# Altium footprint library Ant_V1_PCB.PcbLib: 18 footprints (part 1 of 2)
Each footprint in its own frame and in the unit in brackets; x right, y up, seen from the top. Pads: shape width x height; smd on the part's side, far side on the other; paste and mask are expansions set on the pad; w line width, h text height; cw(c..) or ccw(c..) is an arc to the next point about the centre after c.
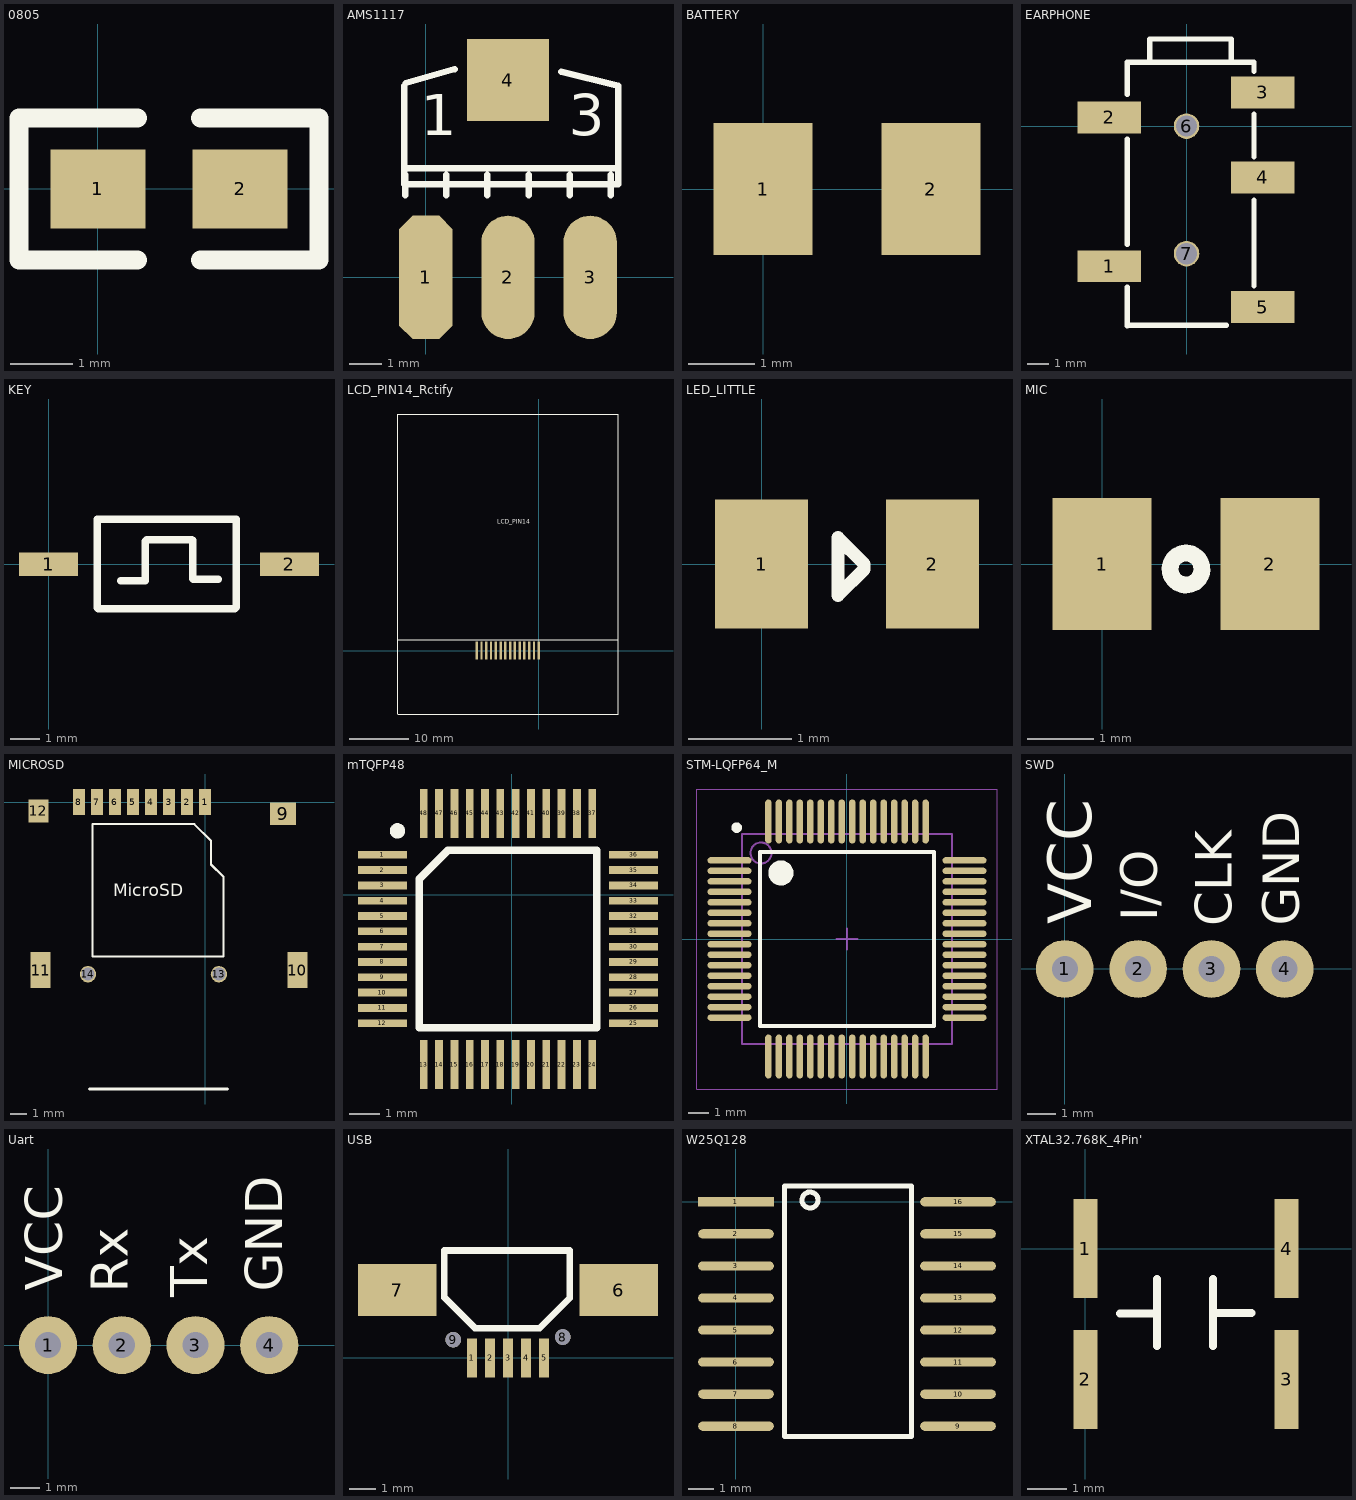
[diagram p0: the footprints below, top view; thin cyan lines are the x and y axes]

## 0805 [mil]
height 100
pads (2):
  rect 60x50 smd: 1(0,-0.06) 2(90,-0.06)
Top Overlay:
  lines w12: 25,-45.06 -50,-45.06 -50,44.94 25,44.94 ; 65,-45.06 140,-45.06 140,44.94 65,44.94

## AMS1117 [mil]
height 100
pads (4):
  oct 65x150 smd: 1(0.03,-0.06)
  oval 65x150 smd: 2(100.03,-0.06) 3(200.03,-0.06)
  rect 100x100 smd: 4(100.03,239.94)
Top Overlay:
  lines w7.87: -25.97,232.94 -25.97,132.94 ; -24.97,99.94 -24.97,124.94 ; -24.3,236.27 35.3,253.3 ; 25.03,99.94 25.03,124.94 ; 75.03,99.94 75.03,124.94 ; 125.03,99.94 125.03,124.94 ; 164.89,250.22 234.03,232.94 234.03,112.94 ; 175.03,99.94 175.03,124.94 ; 225.03,99.94 225.03,124.94 ; -25.97,132.94 -25.97,112.94 234.03,112.94 ; -25.97,132.94 234.03,132.94 234.03,112.94
  text "1" at -5.97,172.94 h50
  text "3" at 174.03,172.94 h50

## BATTERY [mm]
height 2.54
pads (2):
  rect 1.5x2 smd: 1(0,0) 2(2.54,0)

## EARPHONE [mm]
height 2.54
pads (7):
  rect 3x1.5 smd: 1(-3.632,-6.591) 2(-3.632,0.409) 3(3.581,1.584) 4(3.581,-2.416) 5(3.581,-8.516)
  round 1.2 hole 1 unplated: 6(0,0) 7(0,-6)
Top Overlay:
  lines w0.254: -2.794,-9.389 -2.769,-9.364 1.88,-9.364 ; -2.794,-9.338 -2.794,-7.586 ; -2.794,-5.554 -2.794,-0.626 ; -2.794,1.508 -2.794,3.006 0,3.006 3.175,3.006 3.175,2.574 ; -1.727,3.006 -1.727,4.098 2.108,4.098 2.108,3.006 ; 3.175,-7.509 3.175,-3.496 ; 3.175,-1.439 3.175,0.568

## KEY [mm]
height 2.54
pads (2):
  rect 2x0.8 smd: 1(0,0) 2(8.15,0)
Top Overlay:
  lines w0.254: 1.651,1.499 1.651,-1.473 1.676,-1.499 6.299,-1.499 6.35,-1.448 6.35,1.524 ; 1.651,1.524 6.35,1.524 ; 2.438,-0.559 3.277,-0.559 3.277,0.787 3.327,0.838 4.851,0.838 4.877,0.813 4.877,-0.483 4.902,-0.508 5.74,-0.508 ; 6.325,1.499 6.35,1.524

## LCD_PIN14_Rctify [mm] "this is a updata to LCD_Pin"
pads (14):
  rect 0.4x3 smd: 1(0,0) 2(-0.8,0) 3(-1.6,0) 4(-2.4,0) 5(-3.2,0) 6(-4,0) 7(-4.8,0) 8(-5.6,0) 9(-6.4,0) 10(-7.2,0) 11(-8,0) 12(-8.8,0) 13(-9.6,0) 14(-10.4,0)
Top Overlay:
  lines w0.203: -23.673,-10.643 -23.673,39.7 13.36,39.7 13.36,-10.643 ; -23.673,1.803 13.36,1.803 ; -23.656,-10.654 -5.156,-10.654 13.344,-10.654
  text "LCD_PIN14" at -6.985,21.285 h0.76

## LED_LITTLE [mm]
height 2.54
pads (2):
  rect 0.9x1.25 smd: 1(0,0) 2(1.65,0)
Top Overlay:
  lines w0.127: 0.737,-0.305 0.991,-0.051 0.991,0 0.737,0.254 0.737,-0.025 0.737,-0.305

## MIC [mm]
height 2.54
pads (2):
  rect 1.5x2 smd: 1(0,0) 2(2.54,0)
Top Overlay:
  lines w0.254: 1.506,-0.029 ccw(c1.27,-0.076) 1.51,-0.054

## MICROSD [mm]
height 2.54
pads (14):
  rect 0.725x1.6 smd: 1(0,0) 2(-1.1,0) 3(-2.2,0) 4(-3.3,0) 5(-4.4,0) 6(-5.5,0) 7(-6.6,0) 8(-7.7,0)
  rect 1.6x1.4 smd: 9(4.76,-0.711)
  rect 1.2x2.2 smd: 10(5.649,-10.262) 11(-10.049,-10.262)
  rect 1.2x1.4 smd: 12(-10.176,-0.533)
  round 1 hole 0.8 unplated: 13(0.85,-10.513) 14(-7.15,-10.513)
Top Overlay:
  lines w0.127: -6.874,-9.423 1.127,-9.423 1.127,-4.572 0.365,-3.81 0.365,-2.362 -0.651,-1.346 -6.874,-1.346 -6.874,-9.423
  lines w0.203: -7.034,-17.526 1.372,-17.526
  text "MicroSD" at -5.604,-5.766 h0.76

## mTQFP48 [mm]
height 2.54
pads (48):
  rect 1.6x0.254 smd: 1(-4.223,1.3) 2(-4.223,0.8) 3(-4.223,0.3) 4(-4.223,-0.2) 5(-4.223,-0.7) 6(-4.223,-1.2) 7(-4.223,-1.7) 8(-4.223,-2.2) 9(-4.223,-2.7) 10(-4.223,-3.2) 11(-4.223,-3.7) 12(-4.223,-4.2) 25(3.977,-4.2) 26(3.977,-3.7) 27(3.977,-3.2) 28(3.977,-2.7) 29(3.977,-2.2) 30(3.977,-1.7) 31(3.977,-1.2) 32(3.977,-0.7) 33(3.977,-0.2) 34(3.977,0.3) 35(3.977,0.8) 36(3.977,1.3)
  rect 0.254x1.6 smd: 13(-2.873,-5.55) 14(-2.373,-5.55) 15(-1.873,-5.55) 16(-1.373,-5.55) 17(-0.873,-5.55) 18(-0.373,-5.55) 19(0.127,-5.55) 20(0.627,-5.55) 21(1.127,-5.55) 22(1.627,-5.55) 23(2.127,-5.55) 24(2.627,-5.55) 37(2.627,2.65) 38(2.127,2.65) 39(1.627,2.65) 40(1.127,2.65) 41(0.627,2.65) 42(0.127,2.65) 43(-0.373,2.65) 44(-0.873,2.65) 45(-1.373,2.65) 46(-1.873,2.65) 47(-2.373,2.65) 48(-2.873,2.65)
Top Overlay:
  circle w0.25: c-3.734,2.083 r0.125
  lines w0.2: -3.023,-4.35 2.777,-4.35 2.777,1.45
  lines w0.254: -3.023,0.508 -2.081,1.45 ; -3.023,0.508 -3.023,-4.35 2.777,-4.35 2.777,1.45 -1.397,1.45 -2.081,1.45 ; -3.023,0.508 -2.081,1.45

## STM-LQFP64_M [mm] "Thin QFP, 64-Leads, Body 10x10mm, Pitch 0.5mm, IPC Low Density"
height 1.6
pads (64):
  oval 2.1x0.3 smd: 1(-5.6,3.75) 2(-5.6,3.25) 3(-5.6,2.75) 4(-5.6,2.25) 5(-5.6,1.75) 6(-5.6,1.25) 7(-5.6,0.75) 8(-5.6,0.25) 9(-5.6,-0.25) 10(-5.6,-0.75) 11(-5.6,-1.25) 12(-5.6,-1.75) 13(-5.6,-2.25) 14(-5.6,-2.75) 15(-5.6,-3.25) 16(-5.6,-3.75) 33(5.6,-3.75) 34(5.6,-3.25) 35(5.6,-2.75) 36(5.6,-2.25) 37(5.6,-1.75) 38(5.6,-1.25) 39(5.6,-0.75) 40(5.6,-0.25) 41(5.6,0.25) 42(5.6,0.75) 43(5.6,1.25) 44(5.6,1.75) 45(5.6,2.25) 46(5.6,2.75) 47(5.6,3.25) 48(5.6,3.75)
  oval 0.3x2.1 smd: 17(-3.75,-5.6) 18(-3.25,-5.6) 19(-2.75,-5.6) 20(-2.25,-5.6) 21(-1.75,-5.6) 22(-1.25,-5.6) 23(-0.75,-5.6) 24(-0.25,-5.6) 25(0.25,-5.6) 26(0.75,-5.6) 27(1.25,-5.6) 28(1.75,-5.6) 29(2.25,-5.6) 30(2.75,-5.6) 31(3.25,-5.6) 32(3.75,-5.6) 49(3.75,5.6) 50(3.25,5.6) 51(2.75,5.6) 52(2.25,5.6) 53(1.75,5.6) 54(1.25,5.6) 55(0.75,5.6) 56(0.25,5.6) 57(-0.25,5.6) 58(-0.75,5.6) 59(-1.25,5.6) 60(-1.75,5.6) 61(-2.25,5.6) 62(-2.75,5.6) 63(-3.25,5.6) 64(-3.75,5.6)
Top Overlay:
  circle w0.25: c-5.258,5.309 r0.125
  circle w0.6: c-3.15,3.15 r0.3
  lines w0.2: -4.15,-4.15 -4.15,4.15 4.15,4.15 4.15,-4.15 -4.15,-4.15
Mechanical 13:
  circle w0.1: c-4.1,4.1 r0.5
  lines w0.1: -5,-5 -5,5 5,5 5,-5 -5,-5
Mechanical 15:
  lines w0.05: -7.15,-7.15 -7.15,7.15 7.15,7.15 7.15,-7.15 -7.15,-7.15
  lines w0.1: -0.5,0 0.5,0 ; 0,-0.5 0,0.5
3D body: height 1.6, standoff 0.05, extent -5,-5 5,5

## SWD [mm]
height 2.54
pads (4):
  round 2 hole 0.9: 1(0,0) 2(2.54,0) 3(5.08,0) 4(7.62,0)
Top Overlay:
  text "VCC" at 0.914,1.549 h1.52
  text "I/O" at 3.2,1.651 h1.27
  text "GND" at 8.128,1.499 h1.27
  text "CLK" at 5.791,1.473 h1.27
Bottom Overlay:

## Uart [mm]
height 2.54
pads (4):
  round 2 hole 0.9: 1(0,0) 2(2.54,0) 3(5.08,0) 4(7.62,0)
Top Overlay:
  text "VCC" at 0.484,1.871 h1.27
  text "GND" at 8.064,1.839 h1.27
  text "Rx" at 2.742,1.806 h1.27
  text "Tx" at 5.484,1.645 h1.27

## USB [mm]
pads (9):
  rect 0.4x1.5 smd: 1(-1.38,0) 2(-0.69,0) 3(0,0) 4(0.69,0) 5(1.38,0)
  rect 3x2 smd: 6(4.25,2.6) 7(-4.25,2.6)
  round 0.6 hole 0.6 unplated: 8(2.1,0.8) 9(-2.1,0.7)
Top Overlay:
  lines w0.254: -2.438,2.311 -2.438,4.115 2.362,4.115 2.362,2.286 1.219,1.143 -1.27,1.143 -2.438,2.311

## W25Q128 [mm]
height 2.54
pads (16):
  rect 3x0.37 smd: 1(0,0)
  oval 3x0.37 smd: 2(0,-1.27) 3(0,-2.54) 4(0,-3.81) 5(0,-5.08) 6(0,-6.35) 7(0,-7.62) 8(0,-8.89) 9(8.8,-8.89) 10(8.8,-7.62) 11(8.8,-6.35) 12(8.8,-5.08) 13(8.8,-3.81) 14(8.8,-2.54) 15(8.8,-1.27) 16(8.8,0)
Top Overlay:
  lines w0.2: 3.251,0.102 ccw(c2.935,0.073) 3.253,0.073 ; 1.93,-9.296 6.96,-9.296 6.96,0.635 4.717,0.635 1.93,0.635 1.93,-9.296

## XTAL32.768K_4Pin' [mm]
height 2.54
pads (4):
  rect 0.6x2.5 smd: 1(0,0) 2(0,-3.3) 3(5.08,-3.3) 4(5.08,0)
Top Overlay:
  lines w0.203: 0.876,-1.638 1.778,-1.638 ; 1.803,-2.464 1.803,-0.762 ; 3.226,-2.464 3.226,-0.762 ; 3.226,-1.626 4.191,-1.626